# Altium integrated library 530480910.IntLib: 1 symbol
Pins are listed as number, name and electrical type; pins without a type are passive.

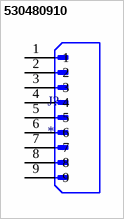
[diagram p0: symbol 530480910]

## 530480910
designator J?
MP: 530480910; Package: None; Availability: Unavailable; Value: *; Price: None
footprint MOLEX_530480910
pins: 1, 2, 3, 4, 5, 6, 7, 8, 9